# Altium footprint library Stove_Light.PcbLib: 127 footprints (part 5 of 8)
Each footprint in its own frame and in the unit in brackets; x right, y up, seen from the top. Pads: shape width x height; smd on the part's side, far side on the other; paste and mask are expansions set on the pad; w line width, h text height; cw(c..) or ccw(c..) is an arc to the next point about the centre after c.
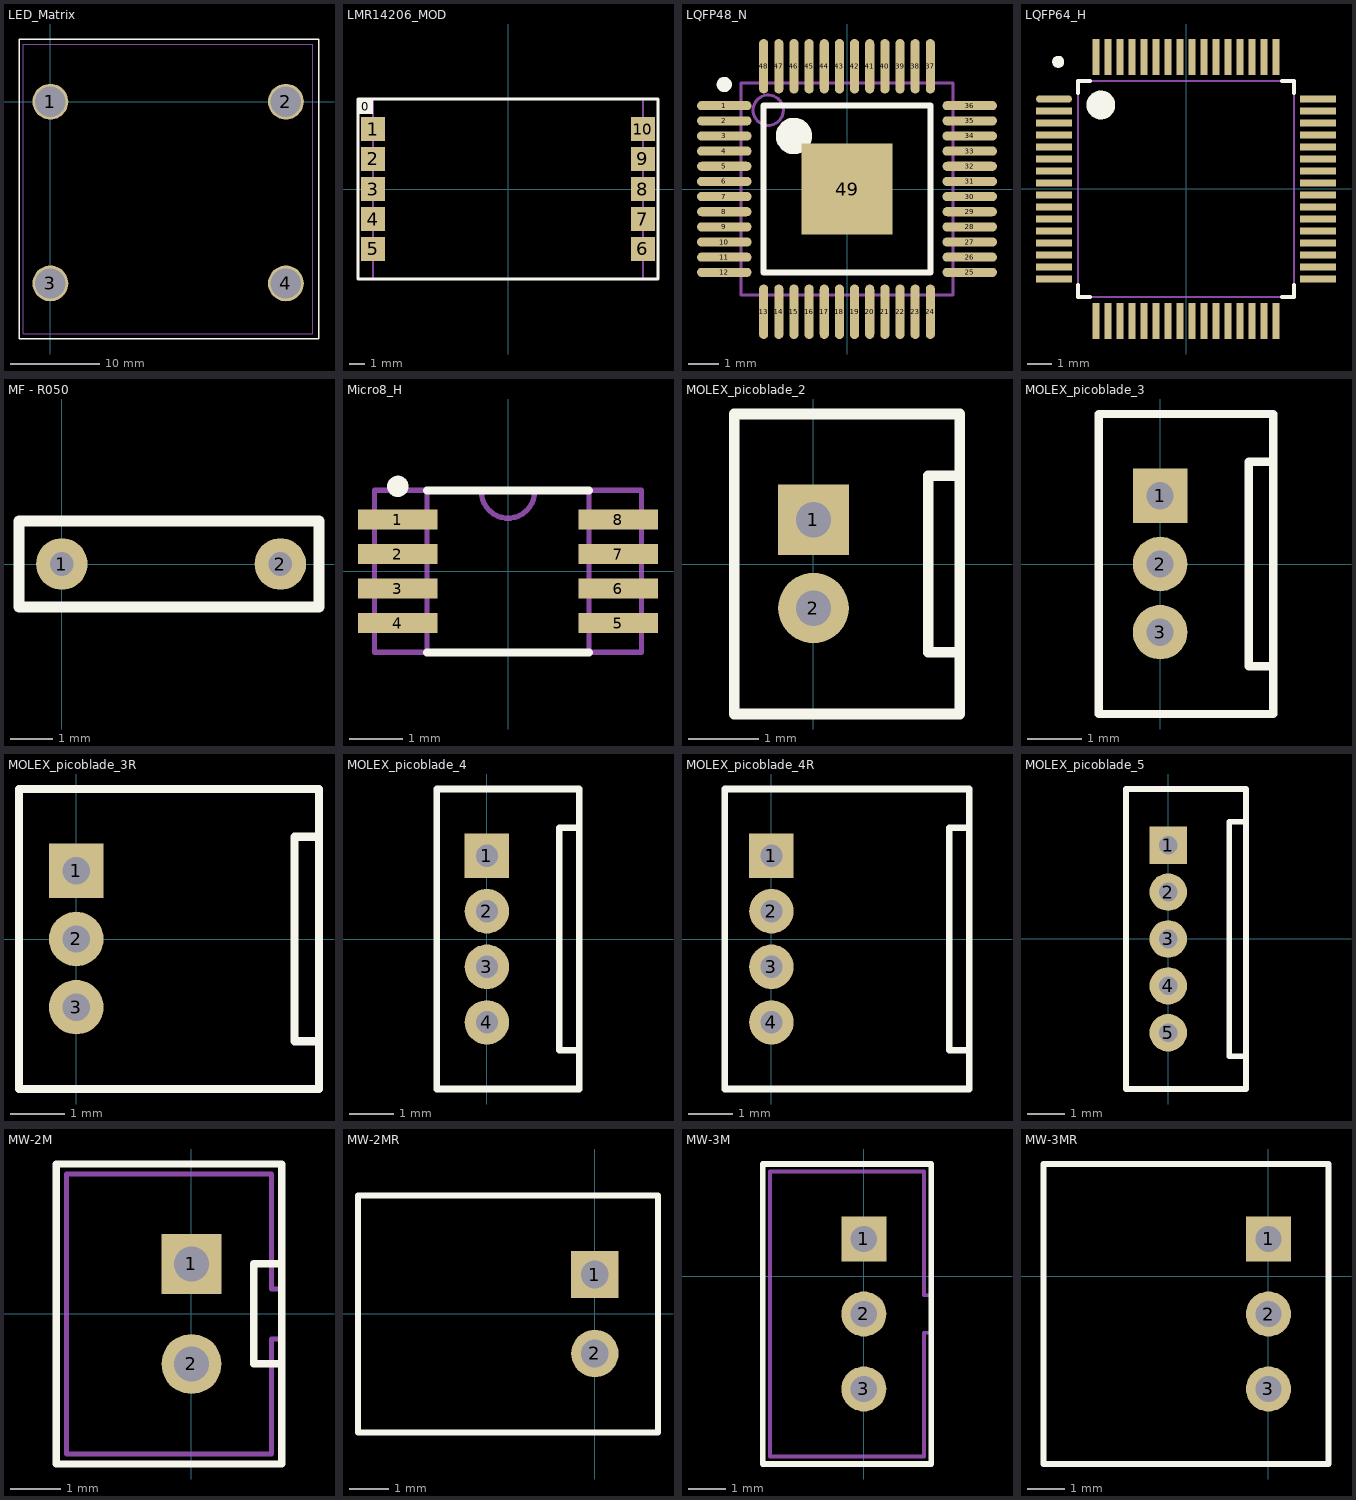
[diagram p4: the footprints below, top view; thin cyan lines are the x and y axes]

## LED_Matrix [mm] "Светодиодная матрица 8х8 32х32"
pads (4):
  round 4 hole 3.4: 1(0,0) 2(26.3,0) 3(0,-20.3) 4(26.3,-20.3)
Top Overlay:
  lines w0.15: -3.5,-26.5 30,-26.5 30,7 -3.5,7 -3.5,-26.5
Mechanical 11:
  lines w0.1: -3,-25.9 29.3,-25.9 29.3,6.4 -3,6.4 -3,-25.9
3D body: height 22.7, standoff -6, extent -2.9,-25.8 29.2,6.3

## LMR14206_MOD [mm]
height 5
pads (11):
  rect 1x1 on Top Overlay: 0(-9.5,5.5)
  rect 1.6x1.6 smd: 1(-9,4) 2(-9,2) 3(-9,0) 4(-9,-2) 5(-9,-4) 6(9,-4) 7(9,-2) 8(9,0) 9(9,2) 10(9,4)
Top Overlay:
  lines w0.2: -10,-6 -10,6 10,6 10,-6 -10,-6
Mechanical 9:
  text ".Designator" at -2.05,1.5 h0.8
  text ".Comment" at -2.35,2.3 h0.8
Mechanical 11:
  lines w0.15: -9,-6 9,-6 9,6 -9,6 -9,-6
3D body: height 3.5, standoff 0.09, extent -9,-6 9,6

## LQFP48_N [mm] "Thin QFP, 48-Leads, Body 7x7mm, Pitch 0.5mm, IPC Medium Density"
height 1.6
pads (49):
  oval 1.8x0.3 smd: 1(-4.05,2.75) 2(-4.05,2.25) 3(-4.05,1.75) 4(-4.05,1.25) 5(-4.05,0.75) 6(-4.05,0.25) 7(-4.05,-0.25) 8(-4.05,-0.75) 9(-4.05,-1.25) 10(-4.05,-1.75) 11(-4.05,-2.25) 12(-4.05,-2.75) 25(4.05,-2.75) 26(4.05,-2.25) 27(4.05,-1.75) 28(4.05,-1.25) 29(4.05,-0.75) 30(4.05,-0.25) 31(4.05,0.25) 32(4.05,0.75) 33(4.05,1.25) 34(4.05,1.75) 35(4.05,2.25) 36(4.05,2.75)
  oval 0.3x1.8 smd: 13(-2.75,-4.05) 14(-2.25,-4.05) 15(-1.75,-4.05) 16(-1.25,-4.05) 17(-0.75,-4.05) 18(-0.25,-4.05) 19(0.25,-4.05) 20(0.75,-4.05) 21(1.25,-4.05) 22(1.75,-4.05) 23(2.25,-4.05) 24(2.75,-4.05) 37(2.75,4.05) 38(2.25,4.05) 39(1.75,4.05) 40(1.25,4.05) 41(0.75,4.05) 42(0.25,4.05) 43(-0.25,4.05) 44(-0.75,4.05) 45(-1.25,4.05) 46(-1.75,4.05) 47(-2.25,4.05) 48(-2.75,4.05)
  rect 3x3 smd: 49(0,0)
Top Overlay:
  circle w0.25: c-4.05,3.45 r0.125
  circle w0.6: c-1.75,1.75 r0.3
  lines w0.2: -2.75,-2.75 -2.75,2.75 2.75,2.75 2.75,-2.75 -2.75,-2.75
Mechanical 7:
  circle w0.1: c-2.6,2.6 r0.5
  lines w0.1: -3.5,-3.5 -3.5,3.5 3.5,3.5 3.5,-3.5 -3.5,-3.5
Mechanical 10:
  text ".Comment" at -3.7,-5.6 h0.6
  text ".Designator" at 1.9,5.4 h0.8
3D body: height 1.46, standoff -0.04, extent -4.507,-4.507 4.508,4.508

## LQFP64_H [mm] "64-Pin Low Profile Quad Pack 0.5 mm Pitch, IPC High Density"
height 1.6
pads (64):
  oval 1.5x0.3 smd mask+0.05: 1(-5.5,3.75)
  rect 1.5x0.3 smd mask+0.05: 2(-5.5,3.25) 3(-5.5,2.75) 4(-5.5,2.25) 5(-5.5,1.75) 6(-5.5,1.25) 7(-5.5,0.75) 8(-5.5,0.25) 9(-5.5,-0.25) 10(-5.5,-0.75) 11(-5.5,-1.25) 12(-5.5,-1.75) 13(-5.5,-2.25) 14(-5.5,-2.75) 15(-5.5,-3.25) 16(-5.5,-3.75) 33(5.5,-3.75) 34(5.5,-3.25) 35(5.5,-2.75) 36(5.5,-2.25) 37(5.5,-1.75) 38(5.5,-1.25) 39(5.5,-0.75) 40(5.5,-0.25) 41(5.5,0.25) 42(5.5,0.75) 43(5.5,1.25) 44(5.5,1.75) 45(5.5,2.25) 46(5.5,2.75) 47(5.5,3.25) 48(5.5,3.75)
  rect 0.3x1.5 smd mask+0.05: 17(-3.75,-5.5) 18(-3.25,-5.5) 19(-2.75,-5.5) 20(-2.25,-5.5) 21(-1.75,-5.5) 22(-1.25,-5.5) 23(-0.75,-5.5) 24(-0.25,-5.5) 25(0.25,-5.5) 26(0.75,-5.5) 27(1.25,-5.5) 28(1.75,-5.5) 29(2.25,-5.5) 30(2.75,-5.5) 31(3.25,-5.5) 32(3.75,-5.5) 49(3.75,5.5) 50(3.25,5.5) 51(2.75,5.5) 52(2.25,5.5) 53(1.75,5.5) 54(1.25,5.5) 55(0.75,5.5) 56(0.25,5.5) 57(-0.25,5.5) 58(-0.75,5.5) 59(-1.25,5.5) 60(-1.75,5.5) 61(-2.25,5.5) 62(-2.75,5.5) 63(-3.25,5.5) 64(-3.75,5.5)
Top Overlay:
  circle w0.6: c-3.55,3.5 r0.3
  circle w0.25: c-5.325,5.3 r0.125
  lines w0.15: -4.5,-4 -4.5,-4.5 -4,-4.5 ; -4.5,4 -4.5,4.5 -4,4.5 ; 4,-4.5 4.5,-4.5 4.5,-4 ; 4,4.5 4.5,4.5 4.5,4
Mechanical 7:
  lines w0.1: -4.5,-4.5 4.5,-4.5 4.5,4.5 -4.5,4.5 -4.5,-4.5
3D body: height 1.5, standoff 0.02, extent -6,-6 6,6

## MF - R050 [mm] "Самовосстанавливающийся предохранитель"
pads (2):
  round 1.2 hole 0.55: 1(0,0) 2(5.1,0)
Top Overlay:
  lines w0.254: -1,-1 -1,1 6,1 6,-1 -1,-1

## Micro8_H [mm]
height 1.11
pads (8):
  rect 1.5x0.38 smd: 1(-2.075,0.975) 2(-2.075,0.325) 3(-2.075,-0.325) 4(-2.075,-0.975) 5(2.075,-0.975) 6(2.075,-0.325) 7(2.075,0.325) 8(2.075,0.975)
Top Overlay:
  circle w0.2: c-2.075,1.6 r0.1
  lines w0.15: -1.525,-1.525 1.525,-1.525 ; -1.525,1.525 1.525,1.525
Mechanical 7:
  lines w0.1: -1.525,-1.525 -1.525,1.525 ; -0.499,1.525 ccw(c0,1.5) 0.499,1.525 ; 1.525,-1.525 1.525,1.525 ; -2.515,-1.525 2.515,-1.525 2.515,1.525 -2.515,1.525 -2.515,-1.525
Mechanical 10:
  text ".Designator" at -0.67,2.04 h0.8
  text ".Comment" at -0.67,-2.26 h0.6
3D body: height 1.11, standoff 0, extent -1.525,-1.525 1.525,1.525
3D body: height 0.7, standoff 0, extent 1.525,-1.525 2.515,1.525
3D body: height 0.7, standoff 0, extent -2.515,-1.525 -1.525,1.525

## MOLEX_picoblade_2 [mm]
height 4.2
pads (2):
  rect 1x1 hole 0.5 mask+0.15: 1(0,0.625)
  round 1 hole 0.5 mask+0.15: 2(0,-0.625)
Top Overlay:
  lines w0.15: 2.075,-1.25 1.625,-1.25 1.625,1.25 2.075,1.25 ; -1.125,-2.125 -1.125,2.125 2.075,2.125 2.075,-2.125 -1.125,-2.125
Mechanical 9:
  text ".Comment" at -0.77,2.485 h0.6
  text ".Designator" at -0.78,3.055 h0.8
Mechanical 11:
  lines w0.1: 2.075,-1.25 1.625,-1.25 1.625,1.25 2.075,1.25 ; -1.125,-2.125 2.075,-2.125 2.075,2.125 -1.125,2.125 -1.125,-2.125
3D body: height 4.22, standoff -2.18, extent -1.125,-2.125 2.075,2.125

## MOLEX_picoblade_3 [mm]
height 4.2
pads (3):
  rect 1x1 hole 0.5 mask+0.15: 1(0,1.25)
  round 1 hole 0.5 mask+0.15: 2(0,0) 3(0,-1.25)
Top Overlay:
  lines w0.15: 2.075,-1.875 1.625,-1.875 1.625,1.875 2.075,1.875 ; -1.125,-2.75 2.075,-2.75 2.075,2.75 -1.125,2.75 -1.125,-2.75
Mechanical 7:
  lines w0.1: 2.075,-1.875 1.625,-1.875 1.625,1.875 2.075,1.875 ; -1.125,-2.75 2.075,-2.75 2.075,2.75 -1.125,2.75 -1.125,-2.75
Mechanical 10:
  text ".Designator" at -0.78,3.68 h0.8
  text ".Comment" at -0.77,3.11 h0.6
3D body: height 4.22, standoff -2.18, extent -1.125,-2.75 2.075,2.75

## MOLEX_picoblade_3R [mm]
height 3.5
pads (3):
  rect 1x1 hole 0.5 mask+0.15: 1(0,1.25)
  round 1 hole 0.5 mask+0.15: 2(0,0) 3(0,-1.25)
Top Overlay:
  lines w0.15: 4.45,-1.875 4,-1.875 4,1.875 4.45,1.875 ; -1.05,-2.75 4.45,-2.75 4.45,2.75 -1.05,2.75 -1.05,-2.75
Mechanical 7:
  lines w0.1: 4.45,-1.875 4,-1.875 4,1.875 4.45,1.875 ; -1.05,-2.75 4.45,-2.75 4.45,2.75 -1.05,2.75 -1.05,-2.75
Mechanical 10:
  text ".Designator" at 0.595,3.73 h0.8
  text ".Comment" at 0.605,3.16 h0.6
3D body: height 3.51, standoff -2.29, extent -1.05,-2.75 4.45,2.75

## MOLEX_picoblade_4 [mm]
height 4.2
pads (4):
  rect 1x1 hole 0.5 mask+0.15: 1(0,1.875)
  round 1 hole 0.5 mask+0.15: 2(0,0.625) 3(0,-0.625) 4(0,-1.875)
Top Overlay:
  lines w0.15: 2.075,-2.5 1.625,-2.5 1.625,2.5 2.075,2.5 ; -1.125,-3.375 2.075,-3.375 2.075,3.375 -1.125,3.375 -1.125,-3.375
Mechanical 7:
  lines w0.1: 2.075,-2.5 1.625,-2.5 1.625,2.5 2.075,2.5 ; -1.125,-3.375 2.075,-3.375 2.075,3.375 -1.125,3.375 -1.125,-3.375
Mechanical 10:
  text ".Designator" at -0.78,4.305 h0.8
  text ".Comment" at -0.77,3.735 h0.6
3D body: height 4.22, standoff -2.18, extent -1.125,-3.375 2.075,3.375

## MOLEX_picoblade_4R [mm]
height 3.5
pads (4):
  rect 1x1 hole 0.5 mask+0.15: 1(0,1.875)
  round 1 hole 0.5 mask+0.15: 2(0,0.625) 3(0,-0.625) 4(0,-1.875)
Top Overlay:
  lines w0.15: 4.45,-2.5 4,-2.5 4,2.5 4.45,2.5 ; -1.05,-3.375 -1.05,3.375 4.45,3.375 4.45,-3.375 -1.05,-3.375
Mechanical 7:
  lines w0.1: 4.45,-2.5 4,-2.5 4,2.5 4.45,2.5 ; -1.05,-3.375 4.45,-3.375 4.45,3.375 -1.05,3.375 -1.05,-3.375
Mechanical 10:
  text ".Comment" at 0.605,3.785 h0.6
  text ".Designator" at 0.595,4.355 h0.8
3D body: height 3.51, standoff -2.29, extent -1.05,-3.375 4.45,3.375

## MOLEX_picoblade_5 [mm]
height 4.2
pads (5):
  rect 1x1 hole 0.5 mask+0.15: 1(0,2.5)
  round 1 hole 0.5 mask+0.15: 2(0,1.25) 3(0,0) 4(0,-1.25) 5(0,-2.5)
Top Overlay:
  lines w0.15: 2.075,-3.125 1.625,-3.125 1.625,3.125 2.075,3.125 ; -1.125,-4 -1.125,4 2.075,4 2.075,-4 -1.125,-4
Mechanical 7:
  lines w0.1: 2.075,-3.125 1.625,-3.125 1.625,3.125 2.075,3.125 ; -1.125,-4 -1.125,4 2.075,4 2.075,-4 -1.125,-4
Mechanical 10:
  text ".Comment" at -0.77,4.36 h0.6
  text ".Designator" at -0.78,4.93 h0.8
3D body: height 4.22, standoff -2.18, extent -1.125,-4 2.075,4

## MW-2M [mm]
height 6
pads (2):
  rect 1.2x1.2 hole 0.7: 1(0,1)
  round 1.2 hole 0.7: 2(0,-1)
Top Overlay:
  lines w0.15: 1.8,-1 1.25,-1 1.25,1 1.8,1 ; -2.7,-3 -2.7,3 1.8,3 1.8,-3 -2.7,-3
Mechanical 9:
  text ".Comment" at -1.27,3.41 h0.6
  text ".Designator" at -1.28,3.98 h0.8
Mechanical 11:
  lines w0.1: 1.79,0.5 1.6,0.5 1.6,2.8 -2.5,2.8 -2.5,-2.8 1.6,-2.8 1.6,-0.5 1.8,-0.5 ; -2.7,-3 1.8,-3 1.8,3 -2.7,3 -2.7,-3
3D body "B2B-PH-K-S.STEP": height 6, standoff -3.4, extent -2.7,-2.95 1.8,2.95

## MW-2MR [mm]
height 4.5
pads (2):
  rect 1.2x1.2 hole 0.7: 1(0,1)
  round 1.2 hole 0.7: 2(0,-1)
Top Overlay:
  lines w0.15: -6,-3 1.6,-3 1.6,3 -6,3 -6,-3
Mechanical 9:
  text ".Comment" at -3.42,3.43 h0.6
  text ".Designator" at -3.43,4 h0.8
Mechanical 11:
  lines w0.1: -6,-3 -6,3 1.6,3 1.6,-3 -6,-3
3D body: height 4.8, standoff -3.4, extent -6,-2.95 1.6,2.95

## MW-3M [mm]
pads (3):
  rect 1.2x1.2 hole 0.7: 1(0,1)
  round 1.2 hole 0.7: 2(0,-1) 3(0,-3)
Top Overlay:
  lines w0.15: -2.7,-5 -2.7,3 1.8,3 1.8,-5 -2.7,-5
Mechanical 7:
  lines w0.1: 1.79,-0.5 1.6,-0.5 1.6,2.8 -2.5,2.8 -2.5,-4.8 1.6,-4.8 1.6,-1.5 1.8,-1.5 ; -2.7,-5 1.8,-5 1.8,3 -2.7,3 -2.7,-5
Mechanical 10:
  text ".Comment" at -1.27,3.41 h0.6
  text ".Designator" at -1.28,3.98 h0.8
3D body "B3B-PH-K-S.STEP": height 6, standoff -3.4, extent -2.7,-4.95 1.8,2.95

## MW-3MR [mm]
pads (3):
  rect 1.2x1.2 hole 0.7: 1(0,1)
  round 1.2 hole 0.7: 2(0,-1) 3(0,-3)
Top Overlay:
  lines w0.15: -6,-5 1.6,-5 1.6,3 -6,3 -6,-5
Mechanical 7:
  lines w0.1: -6,-5 -6,3 1.6,3 1.6,-5 -6,-5
Mechanical 10:
  text ".Comment" at -3.42,3.43 h0.6
  text ".Designator" at -3.43,4 h0.8
3D body: height 4.8, standoff -3.4, extent -6,-4.95 1.6,2.95